# Altium footprint library modules.PcbLib: 10 footprints
Each footprint in its own frame and in the unit in brackets; x right, y up, seen from the top. Pads: shape width x height; smd on the part's side, far side on the other; paste and mask are expansions set on the pad; w line width, h text height; cw(c..) or ccw(c..) is an arc to the next point about the centre after c.
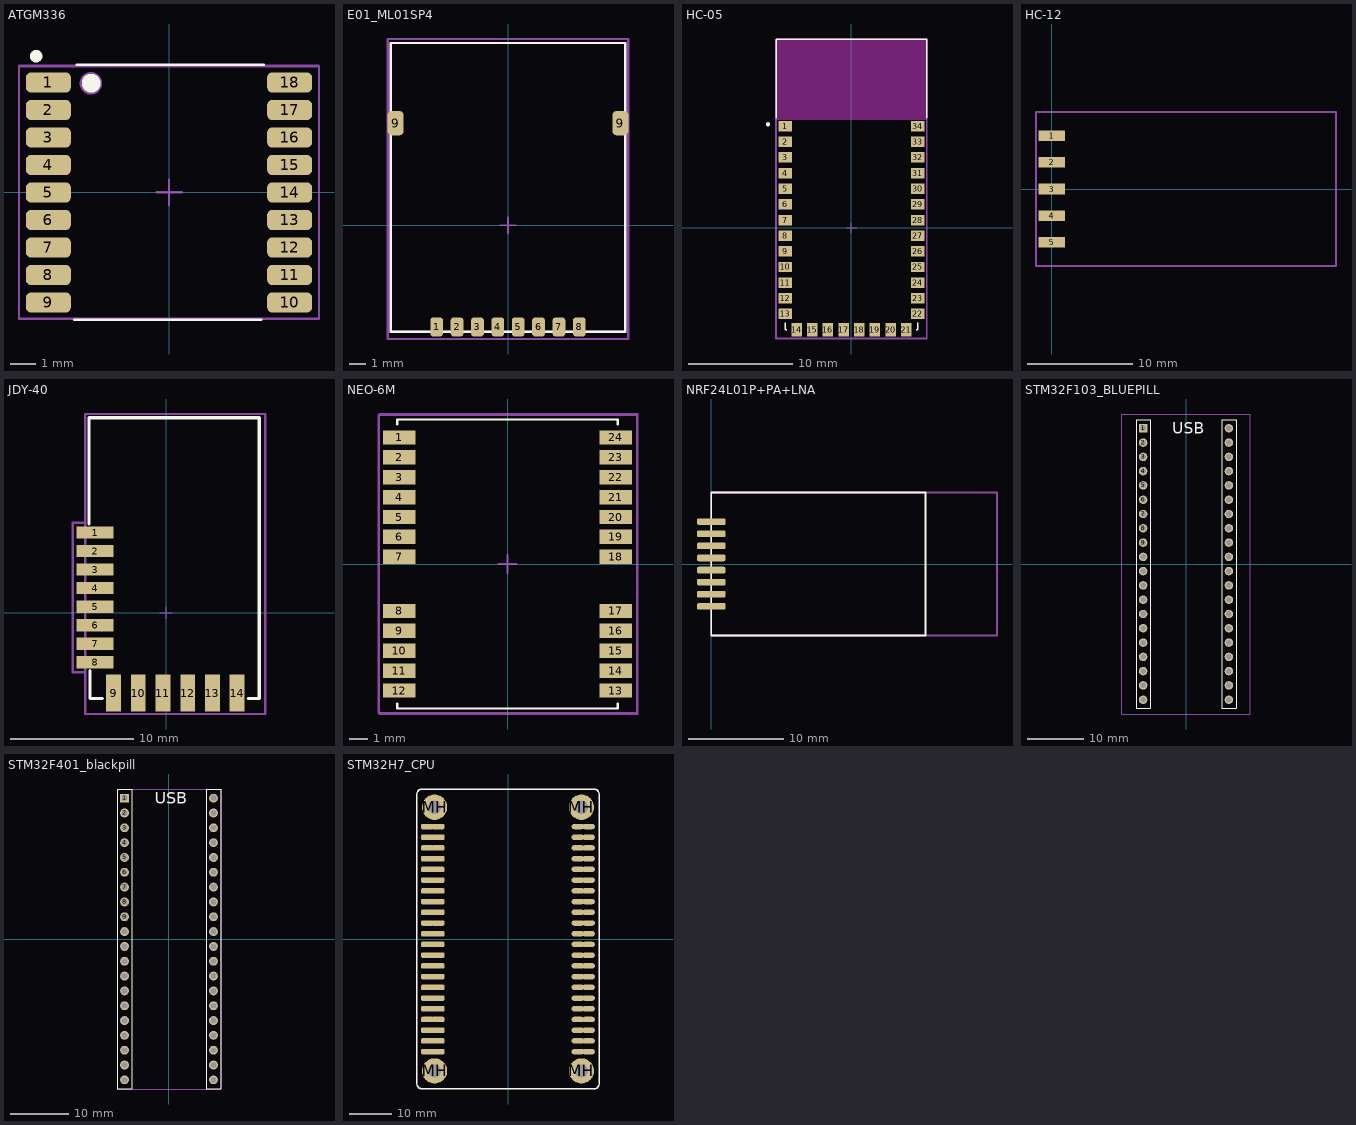
[diagram p0: the footprints below, top view; thin cyan lines are the x and y axes]

## ATGM336 [mm] "PQFN, 18-Leads, Body 9,70x10,10mm, Pitch 1,10mm, IPC Low Density"
height 2.6
pads (18):
  rrect50% 1.8x0.8 smd: 1(-4.825,4.4) 2(-4.825,3.3) 3(-4.825,2.2) 4(-4.825,1.1) 5(-4.825,0) 6(-4.825,-1.1) 7(-4.825,-2.2) 8(-4.825,-3.3) 9(-4.825,-4.4) 10(4.825,-4.4) 11(4.825,-3.3) 12(4.825,-2.2) 13(4.825,-1.1) 14(4.825,0) 15(4.825,1.1) 16(4.825,2.2) 17(4.825,3.3) 18(4.825,4.4)
Top Overlay:
  circle w0.5: c-3.113,4.371 r0.125
  circle w0.25: c-5.315,5.45 r0.125
  lines w0.1: -3.8,-5.1 3.7,-5.1 ; -3.7,5.1 3.8,5.1
Top Assembly (Mech13):
  circle w0.5: c-3.124,4.366 r0.2
  lines w0.1: -0.5,0 0.5,0 ; 0,-0.5 0,0.5 ; -6,-5.05 6,-5.05 6,5.05 -6,5.05 -6,-5.05
Top Courtyard (Mech15):
  lines w0.05: -6,-5.05 6,-5.05 6,5.1 -6,5.1 -6,-5.05
3D body "ATGM336H.stp": height 2.6, standoff 0, extent -4.85,-5.05 4.85,5.05

## E01_ML01SP4 [mm]
pads (10):
  rrect50% 0.8x1.2 smd mask+0: 1(-4.445,-6.35) 2(-3.175,-6.35) 3(-1.905,-6.35) 4(-0.635,-6.35) 5(0.635,-6.35) 6(1.905,-6.35) 7(3.175,-6.35) 8(4.445,-6.35)
  rrect50% 1x1.5 smd mask+0: 9(-7,6.35) 9(7,6.35)
Top Overlay:
  lines w0.15: -7.3,-6.65 -7.3,11.35 7.3,11.35 7.3,-6.65 -7.3,-6.65
Top Assembly (Mech13):
  lines w0.1: -0.5,0 0.5,0 ; 0,-0.5 0,0.5
  lines w0.15: -7.3,-6.65 -7.3,11.35 7.3,11.35 7.3,-6.65 -7.3,-6.65
Top Courtyard (Mech15):
  lines w0.15: -7.5,-7.1 -7.5,11.6 7.5,11.6 7.5,-7.1 -7.5,-7.1

## HC-05 [mm]
pads (34):
  rect 1.3x1 smd: 1(-6.35,9.75) 2(-6.35,8.25) 3(-6.35,6.75) 4(-6.35,5.25) 5(-6.35,3.75) 6(-6.35,2.25) 7(-6.35,0.75) 8(-6.35,-0.75) 9(-6.35,-2.25) 10(-6.35,-3.75) 11(-6.35,-5.25) 12(-6.35,-6.75) 13(-6.35,-8.25) 22(6.35,-8.25) 23(6.35,-6.75) 24(6.35,-5.25) 25(6.35,-3.75) 26(6.35,-2.25) 27(6.35,-0.75) 28(6.35,0.75) 29(6.35,2.25) 30(6.35,3.75) 31(6.35,5.25) 32(6.35,6.75) 33(6.35,8.25) 34(6.35,9.75)
  rect 1x1.3 smd: 14(-5.25,-9.75) 15(-3.75,-9.75) 16(-2.25,-9.75) 17(-0.75,-9.75) 18(0.75,-9.75) 19(2.25,-9.75) 20(3.75,-9.75) 21(5.25,-9.75)
Top Overlay:
  circle w0.2: c-8,9.925 r0.1
  lines w0.127: -7.2,10.57 -7.2,18.1 7.2,18.1 7.2,10.57 ; -6.35,-9.07 -6.35,-9.75 -6.22,-9.75 ; 6.22,-9.75 6.35,-9.75 6.35,-9.07
Keep-Out Layer:
  region: 6.35,10.375 -6.35,10.375 -6.35,17.275 6.35,17.275
  region: 6.35,10.375 -6.35,10.375 -6.35,17.275 6.35,17.275
  region: 7.2,10.375 -7.2,10.375 -7.2,18.1 7.2,18.1
Top Assembly (Mech13):
  lines w0.1: -0.5,0 0.5,0 ; 0,-0.5 0,0.5
  lines w0.127: -7.2,-10.6 -7.2,18.1 7.2,18.1 7.2,-10.6 -7.2,-10.6
Top Courtyard (Mech15):
  lines w0.1: -7.25,-10.65 -7.25,18.1 7.25,18.1 7.25,-10.65 -7.25,-10.65
3D body "User Library-Bluetooth HC-06_.STEP": height 2.35, standoff 0, extent -7.01,-10.025 7.01,17.985

## HC-12 [mm]
pads (5):
  rect 2.5x1 smd: 1(0,5.08) 2(0,2.54) 3(0,0) 4(0,-2.54) 5(0,-5.08)
Top Assembly (Mech13):
  lines w0.1: -0.5,0 0.5,0 ; 0,-0.5 0,0.5
  lines w0.2: -1.5,-7.3 -1.5,7.3 27,7.3 27,-7.3 -1.5,-7.3
Top Courtyard (Mech15):
  lines w0.2: -1.5,-7.3 27,-7.3 27,7.3 -1.5,7.3 -1.5,-7.3
3D body: height 2, standoff 0, extent -0.762,-7.3 27,7.3

## JDY-40 [mm]
pads (14):
  rect 3x1 smd: 1(-5.75,6.5) 2(-5.75,5) 3(-5.75,3.5) 4(-5.75,2) 5(-5.75,0.5) 6(-5.75,-1) 7(-5.75,-2.5) 8(-5.75,-4)
  rect 1.2x3 smd: 9(-4.25,-6.5) 10(-2.25,-6.5) 11(-0.25,-6.5) 12(1.75,-6.5) 13(3.75,-6.5) 14(5.75,-6.5)
Top Overlay:
  lines w0.254: -6.25,7.2 -6.25,15.8 7.55,15.8 7.55,-6.95 6.65,-6.95 ; -6.15,-4.7 -6.15,-6.95 ; -5.15,-6.95 -6.15,-6.95 ; -6.15,-6.95 -6.15,-6.95
Top Assembly (Mech13):
  lines w0.1: -0.5,0 0.5,0 ; 0,-0.5 0,0.5
  lines w0.2: -6.558,-8.2 -6.558,16.1 8.042,16.1 8.042,-8.2 -6.558,-8.2
Top Courtyard (Mech15):
  lines w0.2: -7.57,-4.8 -6.558,-4.8 -6.558,-8.2 8.042,-8.2 8.042,16.1 -6.558,16.1 -6.558,7.3 -7.57,7.3 -7.57,-4.8
3D body "JDY-40.stp": height 1.1, standoff 0, extent -6.15,-7.05 7.55,16.05

## NEO-6M [mm]
pads (24):
  rect 1.8x0.8 smd paste-2: 1(-6,7) 2(-6,5.9) 3(-6,4.8) 4(-6,3.7) 5(-6,2.6) 6(-6,1.5) 7(-6,0.4) 8(-6,-2.6) 9(-6,-3.7) 10(-6,-4.8) 11(-6,-5.9) 12(-6,-7) 13(6,-7) 14(6,-5.9) 15(6,-4.8) 16(6,-3.7) 17(6,-2.6) 18(6,0.4) 19(6,1.5) 20(6,2.6) 21(6,3.7) 22(6,4.8) 23(6,5.9) 24(6,7)
Top Overlay:
  lines w0.127: -6.1,-7.72 -6.1,-8 6.1,-8 6.1,-7.72 ; -6.1,7.72 -6.1,8 6.1,8 6.1,7.72
Top Assembly (Mech13):
  lines w0.1: -0.5,0 0.5,0 ; 0,-0.5 0,0.5 ; -7.1,-8.3 7.2,-8.3 7.2,8.3 -7.1,8.3 -7.1,-8.3
Top Courtyard (Mech15):
  lines w0.1: -7.15,-8.25 7.15,-8.25 7.15,8.25 -7.15,8.25 -7.15,-8.25
3D body "User Library-UBLOX_GPS_NEO-6M.STEP": height 2.64, standoff 0, extent -6.18,-8.3 6.18,8.3

## NRF24L01P+PA+LNA [mm]
pads (8):
  rrect50% 3x0.7 smd: 1(0,4.445) 2(0,3.175) 3(0,1.905) 4(0,0.635) 5(0,-0.635) 6(0,-1.905) 7(0,-3.175) 8(0,-4.445)
Top Overlay:
  lines w0.2: 0,-7.5 22.5,-7.5 22.5,7.5 0,7.5 0,-7.5
Top Assembly (Mech13):
  lines w0.2: 0,-7.5 0,7.5 30,7.5 30,-7.5 0,-7.5
3D body "User Library-nRF24L01-Mini.STEP": height 0.8, standoff 0, extent -0.094,-5.95 17.906,6.05

## STM32F103_BLUEPILL [mm]
pads (40):
  rect 1.508x1.508 hole 1: 1(-7.62,24.13)
  round 1.508 hole 1: 2(-7.62,21.59) 3(-7.62,19.05) 4(-7.62,16.51) 5(-7.62,13.97) 6(-7.62,11.43) 7(-7.62,8.89) 8(-7.62,6.35) 9(-7.62,3.81) 10(-7.62,1.27) 11(-7.62,-1.27) 12(-7.62,-3.81) 13(-7.62,-6.35) 14(-7.62,-8.89) 15(-7.62,-11.43) 16(-7.62,-13.97) 17(-7.62,-16.51) 18(-7.62,-19.05) 19(-7.62,-21.59) 20(-7.62,-24.13) 21(7.62,-24.13) 22(7.62,-21.59) 23(7.62,-19.05) 24(7.62,-16.51) 25(7.62,-13.97) 26(7.62,-11.43) 27(7.62,-8.89) 28(7.62,-6.35) 29(7.62,-3.81) 30(7.62,-1.27) 31(7.62,1.27) 32(7.62,3.81) 33(7.62,6.35) 34(7.62,8.89) 35(7.62,11.43) 36(7.62,13.97) 37(7.62,16.51) 38(7.62,19.05) 39(7.62,21.59) 40(7.62,24.13)
Top Overlay:
  lines w0.127: -8.89,-25.673 -6.35,-25.673 -6.35,25.688 -8.89,25.688 -8.89,-25.673 ; 6.35,-25.673 8.89,-25.673 8.89,25.688 6.35,25.688 6.35,-25.673
  text "USB" at -2.437,23.182 h2
Top Assembly (Mech13):
  lines w0.127: -11.43,-26.67 -11.43,26.67 11.43,26.67 11.43,-26.67 -11.43,-26.67
3D body "User Library-PBS_(DS1023)_1line_connectors_h=5_0_8_5mm_step_2_54mm-1.STEP": height 5, standoff -3.3, extent 6.39,-25.65 8.89,25.65
3D body "User Library-PBS_(DS1023)_1line_connectors_h=5_0_8_5mm_step_2_54mm-1.STEP": height 5, standoff -3.3, extent -8.89,-25.65 -6.39,25.65
3D body "User Library-BluePill.X_B": height 16.51, standoff -0.92, extent -11.227,-31.648 11.273,26.988

## STM32F401_blackpill [mm]
pads (40):
  rect 1.508x1.508 hole 1: 1(-7.62,24.13)
  round 1.508 hole 1: 2(-7.62,21.59) 3(-7.62,19.05) 4(-7.62,16.51) 5(-7.62,13.97) 6(-7.62,11.43) 7(-7.62,8.89) 8(-7.62,6.35) 9(-7.62,3.81) 10(-7.62,1.27) 11(-7.62,-1.27) 12(-7.62,-3.81) 13(-7.62,-6.35) 14(-7.62,-8.89) 15(-7.62,-11.43) 16(-7.62,-13.97) 17(-7.62,-16.51) 18(-7.62,-19.05) 19(-7.62,-21.59) 20(-7.62,-24.13) 21(7.62,-24.13) 22(7.62,-21.59) 23(7.62,-19.05) 24(7.62,-16.51) 25(7.62,-13.97) 26(7.62,-11.43) 27(7.62,-8.89) 28(7.62,-6.35) 29(7.62,-3.81) 30(7.62,-1.27) 31(7.62,1.27) 32(7.62,3.81) 33(7.62,6.35) 34(7.62,8.89) 35(7.62,11.43) 36(7.62,13.97) 37(7.62,16.51) 38(7.62,19.05) 39(7.62,21.59) 40(7.62,24.13)
Top Overlay:
  lines w0.127: -8.89,-25.673 -8.89,25.688 -6.35,25.688 -6.35,-25.673 -8.89,-25.673 ; 6.35,-25.673 6.35,25.688 8.89,25.688 8.89,-25.673 6.35,-25.673
  text "USB" at -2.437,23.182 h2
Top Assembly (Mech13):
  lines w0.127: -8.9,-25.7 -8.9,25.7 8.9,25.7 8.9,-25.7 -8.9,-25.7
3D body "User Library-BluePill.X_B": height 16.51, standoff -0.92, extent -11.227,-31.648 11.273,26.988
3D body "User Library-PBS_(DS1023)_1line_connectors_h=5_0_8_5mm_step_2_54mm-1.STEP": height 5, standoff -3.3, extent -8.89,-25.65 -6.39,25.65
3D body "User Library-PBS_(DS1023)_1line_connectors_h=5_0_8_5mm_step_2_54mm-1.STEP": height 5, standoff -3.3, extent 6.39,-25.65 8.89,25.65

## STM32H7_CPU [mm]
pads (92):
  rrect50% 3x1.3 smd: 1(-19.091,26.67) 2(-16.551,26.67) 3(-19.091,24.13) 4(-16.551,24.13) 5(-19.091,21.59) 6(-16.551,21.59) 7(-19.091,19.05) 8(-16.551,19.05) 9(-19.091,16.51) 10(-16.551,16.51) 11(-19.091,13.97) 12(-16.551,13.97) 13(-19.091,11.43) 14(-16.551,11.43) 15(-19.091,8.89) 16(-16.551,8.89) 17(-19.091,6.35) 18(-16.551,6.35) 19(-19.091,3.81) 20(-16.551,3.81) 21(-19.091,1.27) 22(-16.551,1.27) 23(-19.091,-1.27) 24(-16.551,-1.27) 25(-19.091,-3.81) 26(-16.551,-3.81) 27(-19.091,-6.35) 28(-16.551,-6.35) 29(-19.091,-8.89) 30(-16.551,-8.89) 31(-19.091,-11.43) 32(-16.551,-11.43) 33(-19.091,-13.97) 34(-16.551,-13.97) 35(-19.091,-16.51) 36(-16.551,-16.51) 37(-19.091,-19.05) 38(-16.551,-19.05) 39(-19.091,-21.59) 40(-16.551,-21.59) 41(-19.091,-24.13) 42(-16.551,-24.13) 43(-19.091,-26.67) 44(-16.551,-26.67)
  oval 3x1.3 smd: 45(16.551,26.67) 46(19.091,26.67) 47(16.551,24.13) 48(19.091,24.13) 49(16.551,21.59) 50(19.091,21.59) 51(16.551,19.05) 52(19.091,19.05) 53(16.551,16.51) 54(19.091,16.51) 55(16.551,13.97) 56(19.091,13.97) 57(16.551,11.43) 58(19.091,11.43) 59(16.551,8.89) 60(19.091,8.89) 61(16.551,6.35) 62(19.091,6.35) 63(16.551,3.81) 64(19.091,3.81) 65(16.551,1.27) 66(19.091,1.27) 67(16.551,-1.27) 68(19.091,-1.27) 69(16.551,-3.81) 70(19.091,-3.81) 71(16.551,-6.35) 72(19.091,-6.35) 73(16.551,-8.89) 74(19.091,-8.89) 75(16.551,-11.43) 76(19.091,-11.43) 77(16.551,-13.97) 78(19.091,-13.97) 79(16.551,-16.51) 80(19.091,-16.51) 81(16.551,-19.05) 82(19.091,-19.05) 83(16.551,-21.59) 84(19.091,-21.59) 85(16.551,-24.13) 86(19.091,-24.13) 87(16.551,-26.67) 88(19.091,-26.67)
  round 6 hole 3.12: MH(-17.395,-31.24) MH(-17.395,31.24) MH(17.395,-31.24) MH(17.395,31.24)
Top Overlay:
  lines w0.3: -21.59,-34.23 ccw(c-20.32,-34.23) -20.32,-35.5 20.281,-35.518 ccw(c20.281,-34.209) 21.59,-34.209 21.59,34.29 ccw(c20.32,34.29) 20.32,35.56 -20.32,35.56 ccw(c-20.32,34.29) -21.59,34.29 -21.59,27.94 -21.59,-31.5 -21.59,-34.23
3D body "pcb_connector_803-83-044-30-001101.stp": height 8.5, standoff -0.1, extent -21.271,-27.94 -14.371,27.94
3D body "pcb_connector_803-83-044-30-001101.stp": height 8.5, standoff -0.1, extent 14.371,-27.94 21.271,27.94
3D body "SMT32H7(50VBT6)_DevEBox_Board.SLDPRT": height 12.5, standoff 0.9, extent -20.505,-35.379 20.495,35.371